# EAGLE library part BQ25125YFPR (library BQ25125YFPR)
Low IQ highly integrated battery charge management solution for wearables and IoT 25-DSBGA -40 to 85 Check availability <https://pricing.snapeda.com/parts/BQ25125YFPR/Texas%20Instruments/view-part?ref=eda>
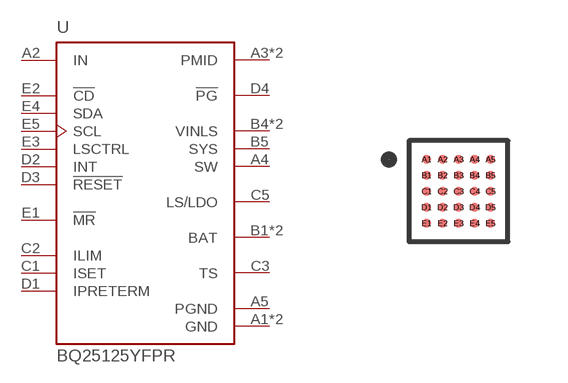
[diagram p0: symbol with the pads of BGA25N40P5X5_253X247X50N; footprint BGA25N40P5X5_253X247X50N]

Designator prefix U

## BQ25125YFPR (Availability: In Stock; Description: Low IQ highly integrated battery charge management solution for wearables and IoT; MF: Texas Instruments; MP: BQ25125YFPR; Package: DSBGA-25 Texas Instruments; Price: None; Purchase-URL: https://pricing.snapeda.com/search/part/BQ25125YFPR/?ref=eda)  [BGA25N40P5X5_253X247X50N]
A1  GND  pwr
A2  IN  in
A3  PMID
A4  SW  out
A5  PGND  pwr
B1  BAT
B2  BAT
B3  PMID
B4  VINLS  in
B5  SYS  in
C1  ISET  in
C2  ILIM  in
C3  TS  in
C4  VINLS  in
C5  LS/LDO  out
D1  IPRETERM  in
D2  INT  out
D3  !RESET  out
D4  !PG  out
D5  GND  pwr
E1  !MR  in
E2  !CD  in
E3  LSCTRL  in
E4  SDA
E5  SCL  in

## Footprint BGA25N40P5X5_253X247X50N (pad centres in mm)
smd 0.23 x 0.23: A1 -0.8,0.8; A2 -0.4,0.8; A3 0,0.8; A4 0.4,0.8; A5 0.8,0.8; B1 -0.8,0.4; B2 -0.4,0.4; B3 0,0.4; B4 0.4,0.4; B5 0.8,0.4; C1 -0.8,0; C2 -0.4,0; C3 0,0; C4 0.4,0; C5 0.8,0; D1 -0.8,-0.4; D2 -0.4,-0.4; D3 0,-0.4; D4 0.4,-0.4; D5 0.8,-0.4; E1 -0.8,-0.8; E2 -0.4,-0.8; E3 0,-0.8; E4 0.4,-0.8; E5 0.8,-0.8